# Altium footprint library BMOD0001P005B02.PcbLib: 1 footprints
Each footprint in its own frame and in the unit in brackets; x right, y up, seen from the top. Pads: shape width x height; smd on the part's side, far side on the other; paste and mask are expansions set on the pad; w line width, h text height; cw(c..) or ccw(c..) is an arc to the next point about the centre after c.
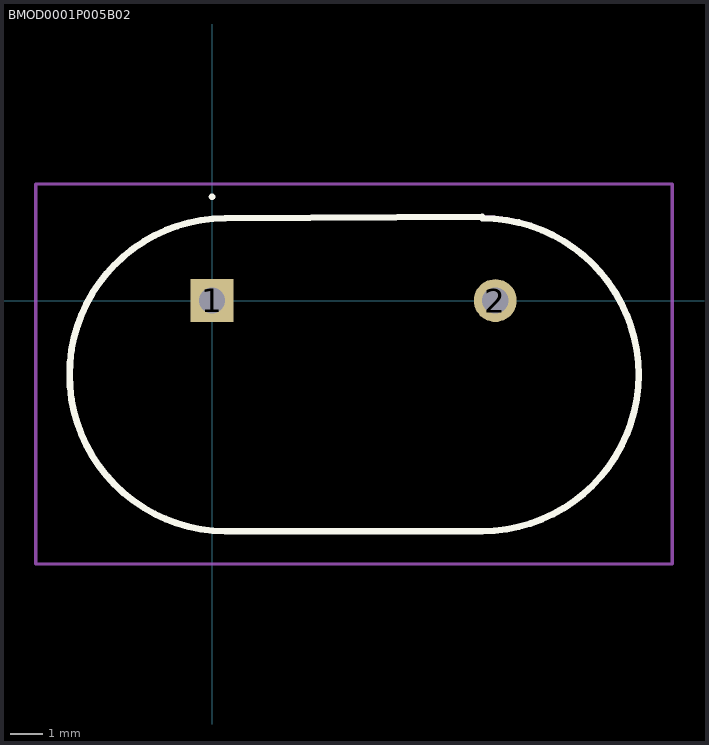
[diagram p0: the footprint, top view; thin cyan lines are the x and y axes]

## BMOD0001P005B02 [mm]
pads (2):
  rect 1.3x1.3 hole 0.8: 1(0,0)
  round 1.3 hole 0.8: 2(8.6,0)
Top Overlay:
  lines w0.1: 0,3.1 0,3.1 ; 0,3.1 ccw(c0,3.15) 0,3.2 ; 0,3.1 cw(c0,3.15) 0,3.2 ; 0,3.2 0,3.2
  lines w0.2: 0.399,-7 cw(c0.424,-2.25) 0.399,2.5 ; 0.4,-7 8.2,-7 ; 8.2,2.5 cw(c8.2,-2.25) 8.2,-7 ; 8.2,2.54 0.4,2.5 ; 0.4,2.5 0.4,2.5 ; 8.2,-7 8.2,-7
Mechanical 15:
  lines w0.1: 0.4,2.5 0.4,2.5 ; 0.4,2.5 ccw(c0.4,-2.25) 0.4,-7 8.2,-7 ; 0.4,2.5 8.2,2.54 cw(c8.2,-2.23) 8.2,-7 ; 8.2,-7 8.2,-7
Mechanical 20:
  lines w0.1: -5.35,-8 13.97,-8 13.97,3.54 -5.35,3.54 -5.35,-8